# Altium schematic symbol library Płytka.SchLib: 1 symbol
Pins are listed as number, name and electrical type; pins without a type are passive.

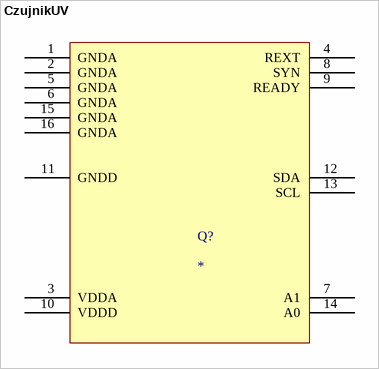
[diagram p0: symbol CzujnikUV]

## CzujnikUV
designator Q?
footprint AS7331 (Może zadziała)
pins: 1 GNDA, 2 GNDA, 3 VDDA, 4 REXT, 5 GNDA, 6 GNDA, 7 A1, 8 SYN, 9 READY, 10 VDDD, 11 GNDD, 12 SDA, 13 SCL, 14 A0, 15 GNDA, 16 GNDA